# Altium schematic symbol library Bno055_Adafruit.SchLib: 8 symbols
Pins are listed as number, name and electrical type; pins without a type are passive.

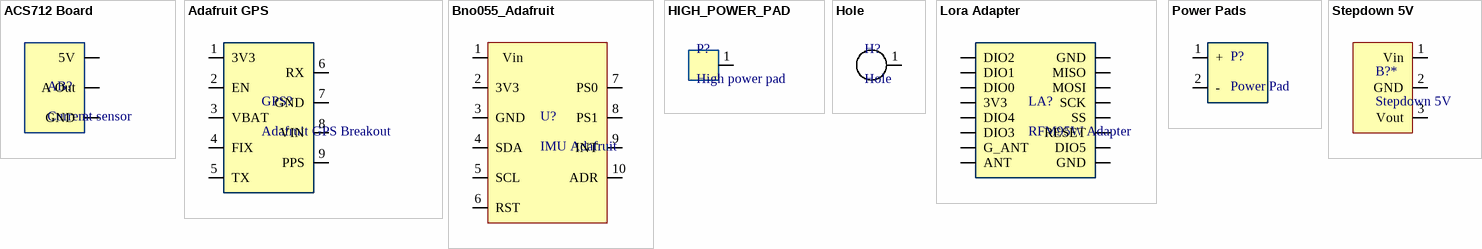
[diagram p0: symbols ACS712 Board to Stepdown 5V]

## ACS712 Board
designator AB?, comment Curremt sensor
ACS712 HAll effect based current sensor
footprint ACS712 Board
pins: 1 GND, 2 A Out, 3 5V

## Adafruit GPS
designator GPS?, comment Adafruit GPS Breakout
Adafruit GPS Breakout DIP Board
footprint Adafruit GPS breakout
pins: 1 3V3, 2 EN, 3 VBAT, 4 FIX, 5 TX, 6 RX, 7 GND, 8 VIN, 9 PPS

## Bno055_Adafruit
designator U?, comment IMU Adafruit
Adafruit IMU breakout part 2472 based on Bosch BNO055 IC
footprint Bno055_Adafruit
pins: 1   Vin, 2 3V3, 3 GND, 4 SDA, 5 SCL, 6 RST, 7 PS0, 8 PS1, 9 INT, 10 ADR

## HIGH_POWER_PAD
designator P?, comment High power pad
High power pads (7.5 x 15 mm)
footprint HIGH_POWER_PAD
pins: 1 PAD

## Hole
designator H?
Circular hole for attaching PCB
footprint Hole
pins: 1 GND

## Lora Adapter
designator LA?, comment RFM95W Adapter
footprint Lora Adapter
pins: 1 DIO2, 2 DIO1, 3 DIO0, 4 3V3 (power), 5 DIO4, 6 DIO3, 7 G_ANT, 8 ANT, 9 GND, 10 MISO, 11 MOSI, 12 SCK, 13 SS, 14 RESET, 15 DIO5, 16 GND

## Power Pads
designator P?, comment Power Pad
8mm Spaced Power Pads (4mm extended diameter, 1.8 mm hole diameter)
footprint PowPads
pins: 1 +, 2 -

## Stepdown 5V
designator B?*
Buck converter DC-DC 5v Mornsun - K78U05-500R3
footprint StepDown 5V (Buck converter DC-DC 5V - Mornsun)
pins: 1 Vin, 2 GND, 3 Vout